# Altium footprint library Drossel_4.1x4.1.PcbLib: 1 footprints
Each footprint in its own frame and in the unit in brackets; x right, y up, seen from the top. Pads: shape width x height; smd on the part's side, far side on the other; paste and mask are expansions set on the pad; w line width, h text height; cw(c..) or ccw(c..) is an arc to the next point about the centre after c.
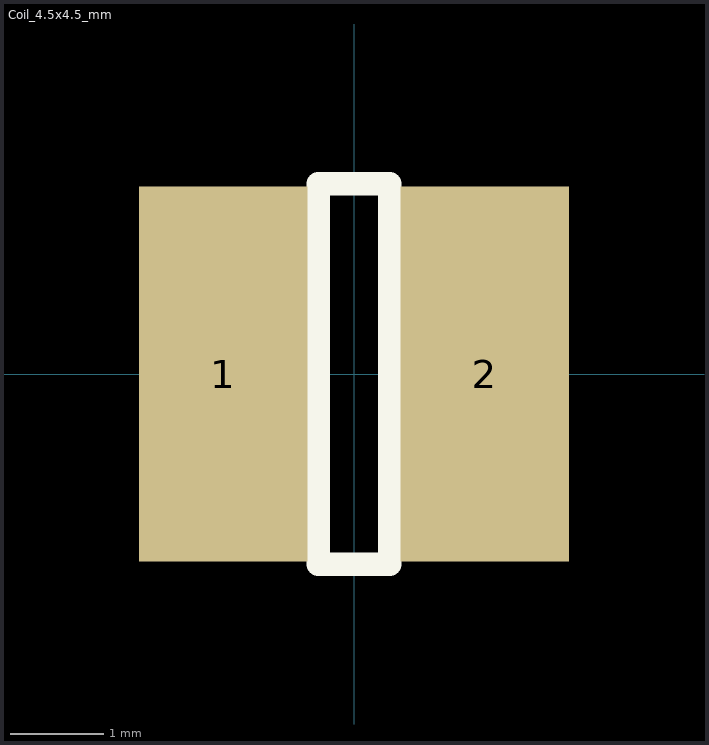
[diagram p0: the footprint, top view; thin cyan lines are the x and y axes]

## Coil_4.5x4.5_mm [mm]
pads (2):
  rect 1.8x4 smd: 1(-1.397,0) 2(1.397,0)
Top Overlay:
  lines w0.254: -0.381,-2.032 0.381,-2.032 0.381,2.032 -0.381,2.032 -0.381,-2.032
3D body "4.15x4.15mm Inductor 471.STEP": height 2.8, standoff -0.1, extent -2.075,-2.075 2.075,2.075